# EAGLE library part RT9187GSP (library ncue_ee)
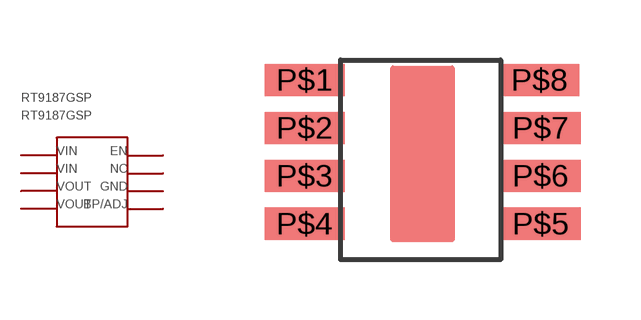
[diagram p1: symbol with the pads of SOP-8; footprint SOP-8]

Designator prefix RT9187GSP

## RT9187GSP  [SOP-8]
P$1  P$1
P$2  P$2
P$3  P$3
P$4  P$4
P$5  P$5
P$6  P$6
P$7  P$7
P$8  P$8

## Footprint SOP-8 (pad centres in mm)
smd 2 x 0.8: P$1 -0.9,-0.5; P$2 -0.9,-1.7; P$3 -0.9,-2.9; P$4 -0.9,-4.1; P$5 5,-4.1; P$6 5,-2.9; P$7 5,-1.7; P$8 4.97,-0.5